# Altium schematic symbol library FZ2812-5050.SchLib: 1 symbol
Pins are listed as number, name and electrical type; pins without a type are passive.

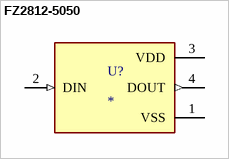
[diagram p0: symbol FZ2812-5050]

## FZ2812-5050
designator U?
MF: {'manufacturer': u'Feztek'}; MP: FZ2812-5050; Package: None; Price: None; Value: *; Availability: Unavailable
footprint LED_FZ2812-5050
pins: 1 VSS (power), 2 DIN (in), 3 VDD (power), 4 DOUT (out)